# EAGLE library part INA209_PW_16 (library TexasInstruments)
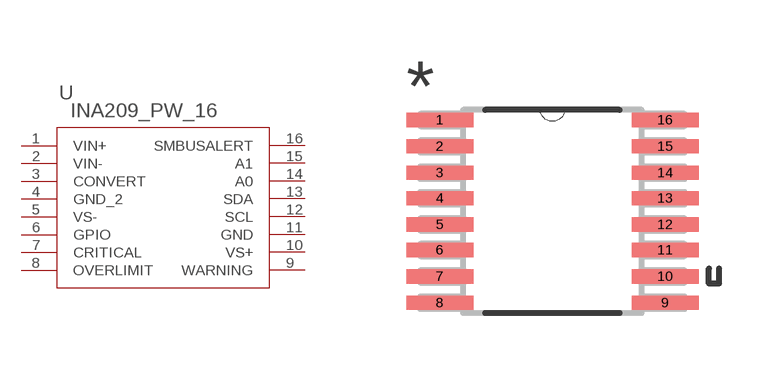
[diagram p3: symbol with the pads of PW16; footprint PW16]

Designator prefix U

## INA209_PW_16 (DATASHEETURL: http://www.ti.com/lit/gpn/INA209; DESCRIPTION: High-Side Measurement, Bi-Directional Current/Power Monitor with I2C Interface; FAMILY_NAME: CURRENT SHUNT MONITOR; GENERIC_PART_NUMBER: INA209; INDUSTRY_STD_PKG_TYPE: TSSOP; MANUFACTURER: Texas Instruments; MANUFACTURER_PART_NUMBER: ina209_pw_16; PACKAGE_DESIGNATOR: PW; PIN_COUNT: 16; VENDOR: Texas Instruments)  [PW16]
1  VIN+  in
2  VIN-  in
3  CONVERT  pas
4  GND_2  pwr
5  VS-  pwr
6  GPIO  pas
7  CRITICAL  out
8  OVERLIMIT  out
9  WARNING  out
10  VS+  pwr
11  GND  pwr
12  SCL  pas
13  SDA  pas
14  A0  pas
15  A1  pas
16  SMBUSALERT  out

## Footprint PW16 (pad centres in mm)
smd 1.676 x 0.356: 1 -2.819,2.286; 2 -2.819,1.626; 3 -2.819,0.965; 4 -2.819,0.33; 5 -2.819,-0.33; 6 -2.819,-0.965; 7 -2.819,-1.626; 8 -2.819,-2.286; 9 2.819,-2.286; 10 2.819,-1.626; 11 2.819,-0.965; 12 2.819,-0.33; 13 2.819,0.33; 14 2.819,0.965; 15 2.819,1.626; 16 2.819,2.286